# Altium schematic symbol library Cypress USB Controllers.SchLib: 169 symbols (part 1 of 15)
Pins are listed as number, name and electrical type; pins without a type are passive.

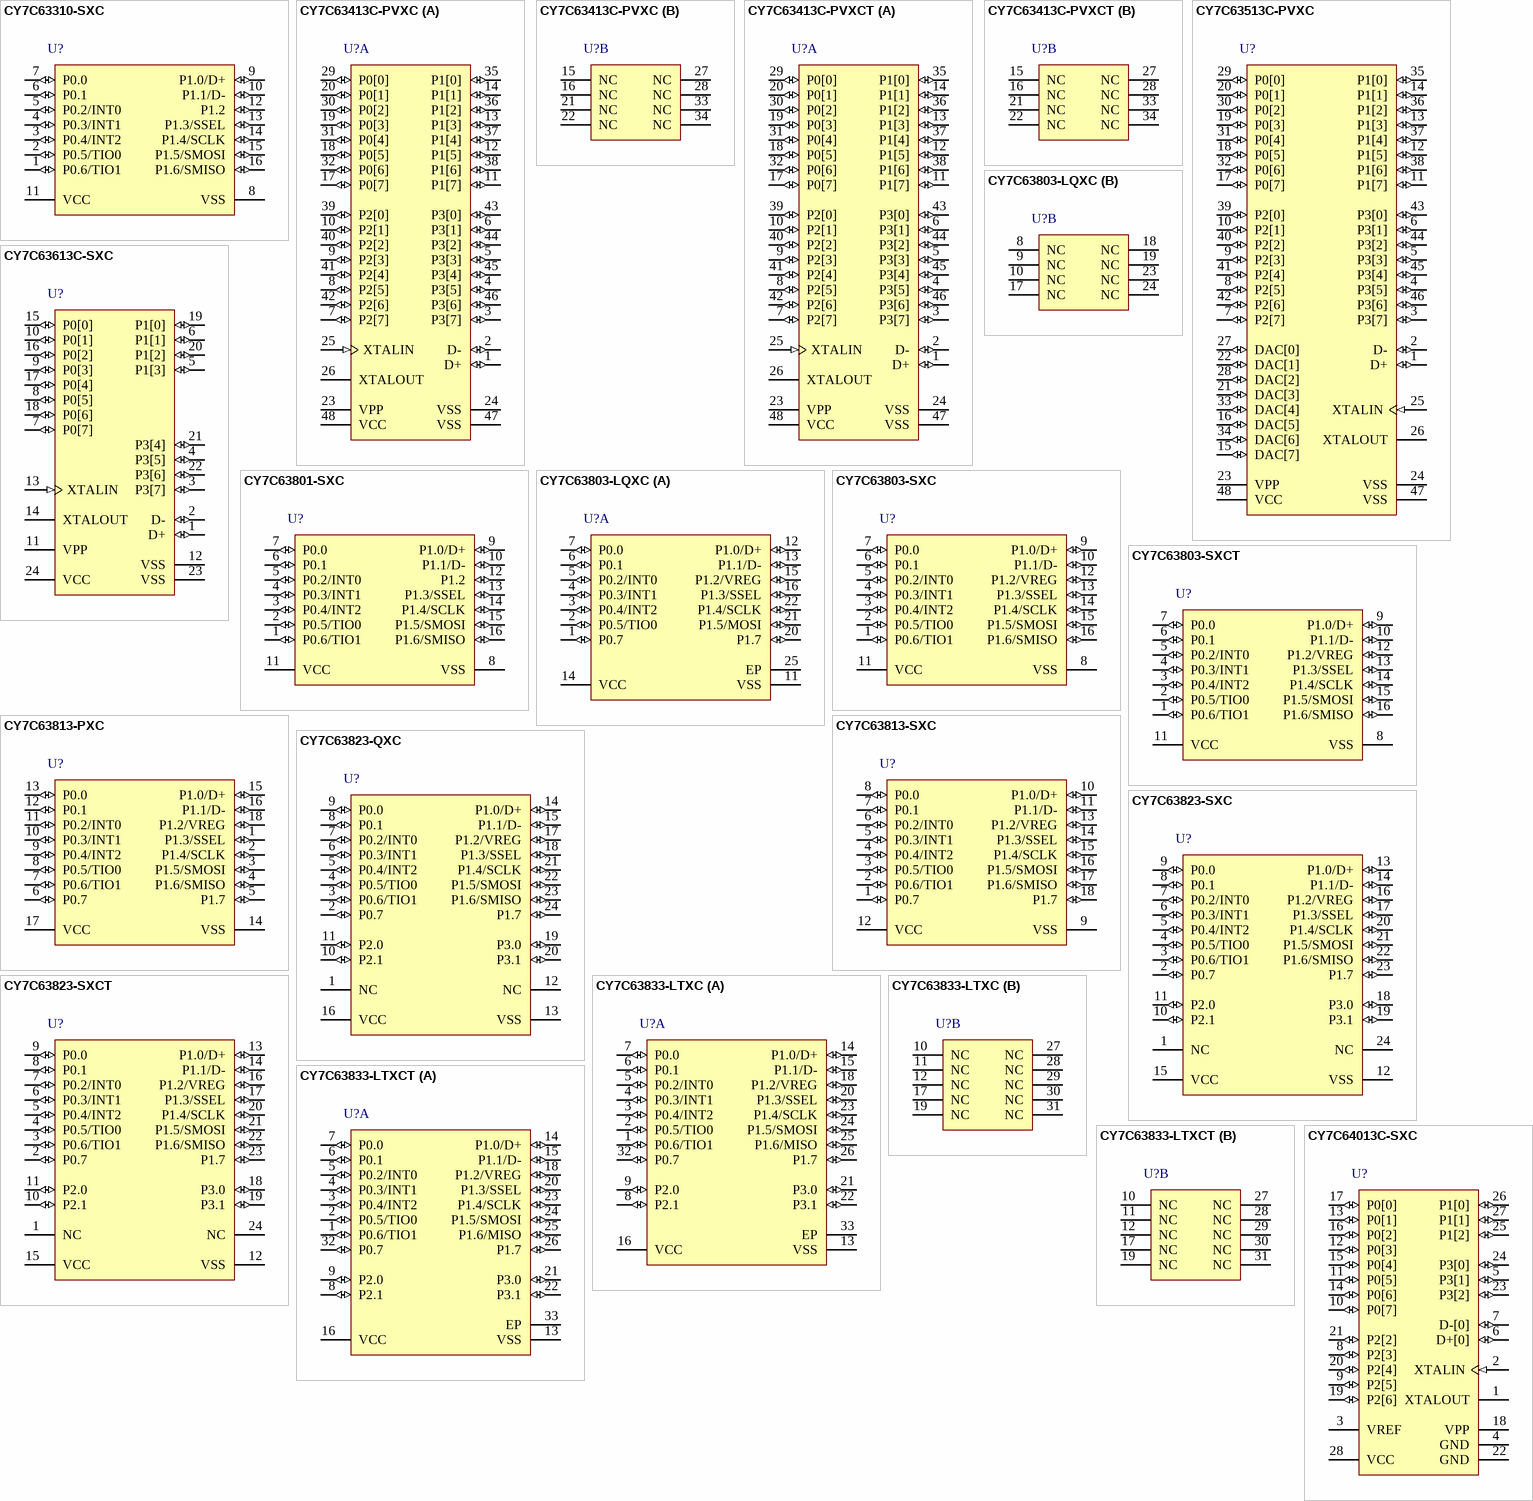
[diagram p0: symbols CY7C63310-SXC to CY7C64013C-SXC]

## CY7C63310-SXC
designator U?
enCoRe(TM) II Low Speed USB Peripheral Controller, 3 KB, 14 I/Os, 4 to 5.5 V, 0 to 70 degC, 16-Pin SOIC (SX16), Tube; Manufacturer: Cypress; PartNumber: CY7C63310-SXC; CPU Core: M8C; Max. Operating Voltage (V): 5.5; Memory Architecture: Flash; Memory Size (KB): 3; Min. Operating Voltage (V): 4; No. of I/Os: 14; Populated: Yes; DatasheetVersion: Rev. *Q; PackageVersion: Rev. *E, 09/2012; PackageReference: SX16; PackageDescription: 16-Pin SOIC (150 MIL), Body 9.89 x 3.90 mm, Pitch 1.27 mm; Supplier 1: Digi-Key; Supplier Part Number 1: 428-2913-5-ND; Max. Operating Temp. (degreesC): 70; Min. Operating Temp. (degreesC): 0; Packing: Tube; RoHS: Pb-Free; Mounting Technology: Surface Mount; Code_JEDEC: MS-012; ComponentLink1Description: Manufacturer URL; ComponentLink1URL: http://www.cypress.com/; ComponentLink2Description: Datasheet; ComponentLink2URL: http://www.cypress.com/?docID=41007; ComponentLink3Description: Package Specification; ComponentLink3URL: http://www.cypress.com/?docID=39437
footprint CYP-SX16_N (SOIC, 16-Leads, Body 9.9x3.9mm, Pitch 1.27mm, IPC Medium Density)
footprint CYP-SX16_L (SOIC, 16-Leads, Body 9.9x3.9mm, Pitch 1.27mm, IPC High Density)
footprint CYP-SX16_M (SOIC, 16-Leads, Body 9.9x3.9mm, Pitch 1.27mm, IPC Low Density)
pins: 1 P0.6/TIO1 (io), 2 P0.5/TIO0 (io), 3 P0.4/INT2 (io), 4 P0.3/INT1 (io), 5 P0.2/INT0 (io), 6 P0.1 (io) "GPIO Port 0 bit 1. Configured individually. Clock output when configured as Clock Out.", 7 P0.0 (io) "GPIO Port 0 bit 0. Configured individually. External clock input when configured as Clock In.", 8 VSS (power) "Ground", 9 P1.0/D+ (io), 10 P1.1/D- (io), 11 VCC (power) "Supply", 12 P1.2 (io) "GPIO Port 1 bit 2. Configured individually", 13 P1.3/SSEL (io), 14 P1.4/SCLK (io), 15 P1.5/SMOSI (io), 16 P1.6/SMISO (io)

## CY7C63413C-PVXC
designator U?
Low-Speed High Input / Output 1.5-Mbps USB Controller, 8 KB, 32 I/Os, 4 to 5.5 V, 0 to 70 degC, 48-Pin SSOP (PVX48), Tube; Manufacturer: Cypress; PartNumber: CY7C63413C-PVXC; CPU Core: M8B; Max. Operating Voltage (V): 5.5; Memory Architecture: EPROM; Memory Size (KB): 8; Min. Operating Voltage (V): 4; No. of I/Os: 32; Populated: Yes; DatasheetVersion: Rev. *G; PackageVersion: Rev. *D, 01/2010; PackageReference: PVX48; PackageDescription: 48-Pin Shrunk Small Outline Package, Body 15.88 x 7.51 mm, Pitch 0.64 mm; Supplier 1: Digi-Key; Supplier Part Number 1: 428-1852-ND; Max. Operating Temp. (degreesC): 70; Min. Operating Temp. (degreesC): 0; Packing: Tube; RoHS: Pb-Free; Mounting Technology: Surface Mount; ComponentLink1Description: Manufacturer URL; ComponentLink1URL: http://www.cypress.com/; ComponentLink2Description: Datasheet; ComponentLink2URL: http://www.cypress.com/?docID=48498; ComponentLink3Description: Package Specification; ComponentLink3URL: http://www.cypress.com/?docID=39235
footprint CYP-PVX48_N (SOP, 48-Leads, Body 15.88x7.51mm, Pitch 0.635mm, IPC Medium Density)
footprint CYP-PVX48_L (SOP, 48-Leads, Body 15.88x7.51mm, Pitch 0.635mm, IPC High Density)
footprint CYP-PVX48_M (SOP, 48-Leads, Body 15.88x7.51mm, Pitch 0.635mm, IPC Low Density)
part A pins: 1 D+ (io) "USB differential data; PS/2 clock and  data signals", 2 D- (io) "USB differential data; PS/2 clock and  data signals", 3 P3[7] (io) "GPIO Port 3 capable of sinking 12 mA  (typical).", 4 P3[5] (io) "GPIO Port 3 capable of sinking 12 mA  (typical).", 5 P3[3] (io) "GPIO Port 3 capable of sinking 12 mA  (typical).", 6 P3[1] (io) "GPIO Port 3 capable of sinking 12 mA  (typical).", 7 P2[7] (io) "GPIO Port 2 capable of sinking 7 mA  (typical).", 8 P2[5] (io) "GPIO Port 2 capable of sinking 7 mA  (typical).", 9 P2[3] (io) "GPIO Port 2 capable of sinking 7 mA  (typical).", 10 P2[1] (io) "GPIO Port 2 capable of sinking 7 mA  (typical).", 11 P1[7] (io) "GPIO Port 1 capable of sinking 7 mA  (typical).", 12 P1[5] (io) "GPIO Port 1 capable of sinking 7 mA  (typical).", 13 P1[3] (io) "GPIO Port 1 capable of sinking 7 mA  (typical).", 14 P1[1] (io) "GPIO Port 1 capable of sinking 7 mA  (typical).", 17 P0[7] (io) "GPIO port 0 capable of sinking 7 mA  (typical)", 18 P0[5] (io) "GPIO port 0 capable of sinking 7 mA  (typical)", 19 P0[3] (io) "GPIO port 0 capable of sinking 7 mA  (typical)", 20 P0[1] (io) "GPIO port 0 capable of sinking 7 mA  (typical)", 23 VPP (power) "Programming voltage supply, ground  during operation", 24 VSS (power) "Ground", 25 XTALIN (in) "6-MHz ceramic resonator or external  clock input", 26 XTALOUT "6-MHz ceramic resonator", 29 P0[0] (io) "GPIO port 0 capable of sinking 7 mA  (typical)", 30 P0[2] (io) "GPIO port 0 capable of sinking 7 mA  (typical)", 31 P0[4] (io) "GPIO port 0 capable of sinking 7 mA  (typical)", 32 P0[6] (io) "GPIO port 0 capable of sinking 7 mA  (typical)", 35 P1[0] (io) "GPIO Port 1 capable of sinking 7 mA  (typical).", 36 P1[2] (io) "GPIO Port 1 capable of sinking 7 mA  (typical).", 37 P1[4] (io) "GPIO Port 1 capable of sinking 7 mA  (typical).", 38 P1[6] (io) "GPIO Port 1 capable of sinking 7 mA  (typical).", 39 P2[0] (io) "GPIO Port 2 capable of sinking 7 mA  (typical).", 40 P2[2] (io) "GPIO Port 2 capable of sinking 7 mA  (typical).", 41 P2[4] (io) "GPIO Port 2 capable of sinking 7 mA  (typical).", 42 P2[6] (io) "GPIO Port 2 capable of sinking 7 mA  (typical).", 43 P3[0] (io) "GPIO Port 3 capable of sinking 12 mA  (typical).", 44 P3[2] (io) "GPIO Port 3 capable of sinking 12 mA  (typical).", 45 P3[4] (io) "GPIO Port 3 capable of sinking 12 mA  (typical).", 46 P3[6] (io) "GPIO Port 3 capable of sinking 12 mA  (typical).", 47 VSS (power) "Ground", 48 VCC (power) "Voltage supply"
part B pins: 15 NC, 16 NC, 21 NC, 22 NC, 27 NC, 28 NC, 33 NC, 34 NC

## CY7C63413C-PVXCT
designator U?
Low-Speed High Input / Output 1.5-Mbps USB Controller, 8 KB, 32 I/Os, 4 to 5.5 V, 0 to 70 degC, 48-Pin SSOP (PVX48), Tape and Reel; Manufacturer: Cypress; PartNumber: CY7C63413C-PVXCT; CPU Core: M8B; Max. Operating Voltage (V): 5.5; Memory Architecture: EPROM; Memory Size (KB): 8; Min. Operating Voltage (V): 4; No. of I/Os: 32; Populated: Yes; DatasheetVersion: Rev. *G; PackageVersion: Rev. *D, 01/2010; PackageReference: PVX48; PackageDescription: 48-Pin Shrunk Small Outline Package, Body 15.88 x 7.51 mm, Pitch 0.64 mm; Supplier 1: Digi-Key; Supplier Part Number 1: CY7C63413C-PVXCT-ND; Max. Operating Temp. (degreesC): 70; Min. Operating Temp. (degreesC): 0; Packing: Tape and Reel; RoHS: Pb-Free; Mounting Technology: Surface Mount; ComponentLink1Description: Manufacturer URL; ComponentLink1URL: http://www.cypress.com/; ComponentLink2Description: Datasheet; ComponentLink2URL: http://www.cypress.com/?docID=48498; ComponentLink3Description: Package Specification; ComponentLink3URL: http://www.cypress.com/?docID=39235
footprint CYP-PVX48_N (SOP, 48-Leads, Body 15.88x7.51mm, Pitch 0.635mm, IPC Medium Density)
footprint CYP-PVX48_L (SOP, 48-Leads, Body 15.88x7.51mm, Pitch 0.635mm, IPC High Density)
footprint CYP-PVX48_M (SOP, 48-Leads, Body 15.88x7.51mm, Pitch 0.635mm, IPC Low Density)
part A pins: 1 D+ (io) "USB differential data; PS/2 clock and  data signals", 2 D- (io) "USB differential data; PS/2 clock and  data signals", 3 P3[7] (io) "GPIO Port 3 capable of sinking 12 mA  (typical).", 4 P3[5] (io) "GPIO Port 3 capable of sinking 12 mA  (typical).", 5 P3[3] (io) "GPIO Port 3 capable of sinking 12 mA  (typical).", 6 P3[1] (io) "GPIO Port 3 capable of sinking 12 mA  (typical).", 7 P2[7] (io) "GPIO Port 2 capable of sinking 7 mA  (typical).", 8 P2[5] (io) "GPIO Port 2 capable of sinking 7 mA  (typical).", 9 P2[3] (io) "GPIO Port 2 capable of sinking 7 mA  (typical).", 10 P2[1] (io) "GPIO Port 2 capable of sinking 7 mA  (typical).", 11 P1[7] (io) "GPIO Port 1 capable of sinking 7 mA  (typical).", 12 P1[5] (io) "GPIO Port 1 capable of sinking 7 mA  (typical).", 13 P1[3] (io) "GPIO Port 1 capable of sinking 7 mA  (typical).", 14 P1[1] (io) "GPIO Port 1 capable of sinking 7 mA  (typical).", 17 P0[7] (io) "GPIO port 0 capable of sinking 7 mA  (typical)", 18 P0[5] (io) "GPIO port 0 capable of sinking 7 mA  (typical)", 19 P0[3] (io) "GPIO port 0 capable of sinking 7 mA  (typical)", 20 P0[1] (io) "GPIO port 0 capable of sinking 7 mA  (typical)", 23 VPP (power) "Programming voltage supply, ground  during operation", 24 VSS (power) "Ground", 25 XTALIN (in) "6-MHz ceramic resonator or external  clock input", 26 XTALOUT "6-MHz ceramic resonator", 29 P0[0] (io) "GPIO port 0 capable of sinking 7 mA  (typical)", 30 P0[2] (io) "GPIO port 0 capable of sinking 7 mA  (typical)", 31 P0[4] (io) "GPIO port 0 capable of sinking 7 mA  (typical)", 32 P0[6] (io) "GPIO port 0 capable of sinking 7 mA  (typical)", 35 P1[0] (io) "GPIO Port 1 capable of sinking 7 mA  (typical).", 36 P1[2] (io) "GPIO Port 1 capable of sinking 7 mA  (typical).", 37 P1[4] (io) "GPIO Port 1 capable of sinking 7 mA  (typical).", 38 P1[6] (io) "GPIO Port 1 capable of sinking 7 mA  (typical).", 39 P2[0] (io) "GPIO Port 2 capable of sinking 7 mA  (typical).", 40 P2[2] (io) "GPIO Port 2 capable of sinking 7 mA  (typical).", 41 P2[4] (io) "GPIO Port 2 capable of sinking 7 mA  (typical).", 42 P2[6] (io) "GPIO Port 2 capable of sinking 7 mA  (typical).", 43 P3[0] (io) "GPIO Port 3 capable of sinking 12 mA  (typical).", 44 P3[2] (io) "GPIO Port 3 capable of sinking 12 mA  (typical).", 45 P3[4] (io) "GPIO Port 3 capable of sinking 12 mA  (typical).", 46 P3[6] (io) "GPIO Port 3 capable of sinking 12 mA  (typical).", 47 VSS (power) "Ground", 48 VCC (power) "Voltage supply"
part B pins: 15 NC, 16 NC, 21 NC, 22 NC, 27 NC, 28 NC, 33 NC, 34 NC

## CY7C63513C-PVXC
designator U?
Low-Speed High Input / Output 1.5-Mbps USB Controller, 8 KB, 40 I/Os, 4 to 5.5 V, 0 to 70 degC, 48-Pin SSOP (PVX48), Tube; Manufacturer: Cypress; PartNumber: CY7C63513C-PVXC; CPU Core: M8B; Max. Operating Voltage (V): 5.5; Memory Architecture: EPROM; Memory Size (KB): 8; Min. Operating Voltage (V): 4; No. of I/Os: 40; Populated: Yes; DatasheetVersion: Rev. *G; PackageVersion: Rev. *D, 01/2010; PackageReference: PVX48; PackageDescription: 48-Pin Shrunk Small Outline Package, Body 15.88 x 7.51 mm, Pitch 0.64 mm; Supplier 1: Digi-Key; Supplier Part Number 1: 428-2253-5-ND; Max. Operating Temp. (degreesC): 70; Min. Operating Temp. (degreesC): 0; Packing: Tube; RoHS: Pb-Free; Mounting Technology: Surface Mount; ComponentLink1Description: Manufacturer URL; ComponentLink1URL: http://www.cypress.com/; ComponentLink2Description: Datasheet; ComponentLink2URL: http://www.cypress.com/?docID=48498; ComponentLink3Description: Package Specification; ComponentLink3URL: http://www.cypress.com/?docID=39235
footprint CYP-PVX48_N (SOP, 48-Leads, Body 15.88x7.51mm, Pitch 0.635mm, IPC Medium Density)
footprint CYP-PVX48_L (SOP, 48-Leads, Body 15.88x7.51mm, Pitch 0.635mm, IPC High Density)
footprint CYP-PVX48_M (SOP, 48-Leads, Body 15.88x7.51mm, Pitch 0.635mm, IPC Low Density)
pins: 1 D+ (io) "USB differential data; PS/2 clock and  data signals", 2 D- (io) "USB differential data; PS/2 clock and  data signals", 3 P3[7] (io) "GPIO Port 3 capable of sinking 12 mA  (typical).", 4 P3[5] (io) "GPIO Port 3 capable of sinking 12 mA  (typical).", 5 P3[3] (io) "GPIO Port 3 capable of sinking 12 mA  (typical).", 6 P3[1] (io) "GPIO Port 3 capable of sinking 12 mA  (typical).", 7 P2[7] (io) "GPIO Port 2 capable of sinking 7 mA  (typical).", 8 P2[5] (io) "GPIO Port 2 capable of sinking 7 mA  (typical).", 9 P2[3] (io) "GPIO Port 2 capable of sinking 7 mA  (typical).", 10 P2[1] (io) "GPIO Port 2 capable of sinking 7 mA  (typical).", 11 P1[7] (io) "GPIO Port 1 capable of sinking 7 mA  (typical).", 12 P1[5] (io) "GPIO Port 1 capable of sinking 7 mA  (typical).", 13 P1[3] (io) "GPIO Port 1 capable of sinking 7 mA  (typical).", 14 P1[1] (io) "GPIO Port 1 capable of sinking 7 mA  (typical).", 15 DAC[7] (io) "DAC I/O Port with programable current sink outputs. DAC[1:0] offer a programable range of 3.2 to 16 mA typical. DAC[7:2] have a programable sink current range of 0.2 to 1.0 mA typical. DAC I/O Port not bonded out on (See Datasheet)", 16 DAC[5] (io) "DAC I/O Port with programable current sink outputs. DAC[1:0] offer a programable range of 3.2 to 16 mA typical. DAC[7:2] have a programable sink current range of 0.2 to 1.0 mA typical. DAC I/O Port not bonded out on (See Datasheet)", 17 P0[7] (io) "GPIO port 0 capable of sinking 7 mA  (typical)", 18 P0[5] (io) "GPIO port 0 capable of sinking 7 mA  (typical)", 19 P0[3] (io) "GPIO port 0 capable of sinking 7 mA  (typical)", 20 P0[1] (io) "GPIO port 0 capable of sinking 7 mA  (typical)", 21 DAC[3] (io) "DAC I/O Port with programable current sink outputs. DAC[1:0] offer a programable range of 3.2 to 16 mA typical. DAC[7:2] have a programable sink current range of 0.2 to 1.0 mA typical. DAC I/O Port not bonded out on (See Datasheet)", 22 DAC[1] (io) "DAC I/O Port with programable current sink outputs. DAC[1:0] offer a programable range of 3.2 to 16 mA typical. DAC[7:2] have a programable sink current range of 0.2 to 1.0 mA typical. DAC I/O Port not bonded out on (See Datasheet)", 23 VPP (power) "Programming voltage supply, ground  during operation", 24 VSS (power) "Ground", 25 XTALIN (in) "6-MHz ceramic resonator or external  clock input", 26 XTALOUT "6-MHz ceramic resonator", 27 DAC[0] (io) "DAC I/O Port with programable current sink outputs. DAC[1:0] offer a programable range of 3.2 to 16 mA typical. DAC[7:2] have a programable sink current range of 0.2 to 1.0 mA typical. DAC I/O Port not bonded out on (See Datasheet)", 28 DAC[2] (io) "DAC I/O Port with programable current sink outputs. DAC[1:0] offer a programable range of 3.2 to 16 mA typical. DAC[7:2] have a programable sink current range of 0.2 to 1.0 mA typical. DAC I/O Port not bonded out on (See Datasheet)", 29 P0[0] (io) "GPIO port 0 capable of sinking 7 mA  (typical)", 30 P0[2] (io) "GPIO port 0 capable of sinking 7 mA  (typical)", 31 P0[4] (io) "GPIO port 0 capable of sinking 7 mA  (typical)", 32 P0[6] (io) "GPIO port 0 capable of sinking 7 mA  (typical)", 33 DAC[4] (io) "DAC I/O Port with programable current sink outputs. DAC[1:0] offer a programable range of 3.2 to 16 mA typical. DAC[7:2] have a programable sink current range of 0.2 to 1.0 mA typical. DAC I/O Port not bonded out on (See Datasheet)", 34 DAC[6] (io) "DAC I/O Port with programable current sink outputs. DAC[1:0] offer a programable range of 3.2 to 16 mA typical. DAC[7:2] have a programable sink current range of 0.2 to 1.0 mA typical. DAC I/O Port not bonded out on (See Datasheet)", 35 P1[0] (io) "GPIO Port 1 capable of sinking 7 mA  (typical).", 36 P1[2] (io) "GPIO Port 1 capable of sinking 7 mA  (typical).", 37 P1[4] (io) "GPIO Port 1 capable of sinking 7 mA  (typical).", 38 P1[6] (io) "GPIO Port 1 capable of sinking 7 mA  (typical).", 39 P2[0] (io) "GPIO Port 2 capable of sinking 7 mA  (typical).", 40 P2[2] (io) "GPIO Port 2 capable of sinking 7 mA  (typical).", 41 P2[4] (io) "GPIO Port 2 capable of sinking 7 mA  (typical).", 42 P2[6] (io) "GPIO Port 2 capable of sinking 7 mA  (typical).", 43 P3[0] (io) "GPIO Port 3 capable of sinking 12 mA  (typical).", 44 P3[2] (io) "GPIO Port 3 capable of sinking 12 mA  (typical).", 45 P3[4] (io) "GPIO Port 3 capable of sinking 12 mA  (typical).", 46 P3[6] (io) "GPIO Port 3 capable of sinking 12 mA  (typical).", 47 VSS (power) "Ground", 48 VCC (power) "Voltage supply"

## CY7C63613C-SXC
designator U?
Low-Speed High Input / Output 1.5-Mbps USB Controller, 8 KB, 16 I/Os, 4 to 5.5 V, 0 to 70 degC, 24-Pin SOIC (SX24), Tube; Manufacturer: Cypress; PartNumber: CY7C63613C-SXC; CPU Core: M8B; Max. Operating Voltage (V): 5.5; Memory Architecture: EPROM; Memory Size (KB): 8; Min. Operating Voltage (V): 4; No. of I/Os: 16; Populated: Yes; DatasheetVersion: Rev. *G; PackageVersion: Rev. *E; PackageReference: SX24; PackageDescription: 24-Pin Small Outline Integrated Circuit Package, Body 7.506 x 15.392 mm, Pitch 1.27 mm; Supplier 1: Digi-Key; Supplier Part Number 1: 428-2254-5-ND; Max. Operating Temp. (degreesC): 70; Min. Operating Temp. (degreesC): 0; Packing: Tube; RoHS: Pb-Free; Mounting Technology: Surface Mount; Code_JEDEC: MO-119; ComponentLink1Description: Manufacturer URL; ComponentLink1URL: http://www.cypress.com/; ComponentLink2Description: Datasheet; ComponentLink2URL: http://www.cypress.com/?docID=48498; ComponentLink3Description: Package Specification; ComponentLink3URL: http://www.cypress.com/?docID=41007
footprint CYP-SX24_N (SOIC, 24-Leads, Body 15.6x7.6mm, Pitch 1.27mm, IPC Medium Density)
footprint CYP-SX24_L (SOIC, 24-Leads, Body 15.6x7.6mm, Pitch 1.27mm, IPC High Density)
footprint CYP-SX24_M (SOIC, 24-Leads, Body 15.6x7.6mm, Pitch 1.27mm, IPC Low Density)
pins: 1 D+ (io) "USB differential data; PS/2 clock and  data signals", 2 D- (io) "USB differential data; PS/2 clock and  data signals", 3 P3[7] (io) "GPIO Port 3 capable of sinking 12 mA  (typical).", 4 P3[5] (io) "GPIO Port 3 capable of sinking 12 mA  (typical).", 5 P1[3] (io) "GPIO port 1 capable of sinking 7 mA  (typical)", 6 P1[1] (io) "GPIO port 1 capable of sinking 7 mA  (typical)", 7 P0[7] (io) "GPIO port 0 capable of sinking 7 mA  (typical)", 8 P0[5] (io) "GPIO port 0 capable of sinking 7 mA  (typical)", 9 P0[3] (io) "GPIO port 0 capable of sinking 7 mA  (typical)", 10 P0[1] (io) "GPIO port 0 capable of sinking 7 mA  (typical)", 11 VPP (power) "Programming voltage supply, ground  during operation", 12 VSS (power) "Ground", 13 XTALIN (in) "6-MHz ceramic resonator or external  clock input", 14 XTALOUT "6-MHz ceramic resonator", 15 P0[0] (io) "GPIO port 0 capable of sinking 7 mA  (typical)", 16 P0[2] (io) "GPIO port 0 capable of sinking 7 mA  (typical)", 17 P0[4] (io) "GPIO port 0 capable of sinking 7 mA  (typical)", 18 P0[6] (io) "GPIO port 0 capable of sinking 7 mA  (typical)", 19 P1[0] (io) "GPIO port 1 capable of sinking 7 mA  (typical)", 20 P1[2] (io) "GPIO port 1 capable of sinking 7 mA  (typical)", 21 P3[4] (io) "GPIO Port 3 capable of sinking 12 mA  (typical).", 22 P3[6] (io) "GPIO Port 3 capable of sinking 12 mA  (typical).", 23 VSS (power) "Ground", 24 VCC (power) "Voltage supply"

## CY7C63801-SXC
designator U?
enCoRe(TM) II Low Speed USB Peripheral Controller, 4 KB, 14 I/Os, 4 to 5.5 V, 0 to 70 degC, 16-Pin SOIC (SX16), Tube; Manufacturer: Cypress; PartNumber: CY7C63801-SXC; CPU Core: M8C; Max. Operating Voltage (V): 5.5; Memory Architecture: Flash; Memory Size (KB): 4; No. of I/Os: 14; Populated: Yes; DatasheetVersion: Rev. *Q; PackageVersion: Rev. *E, 09/2012; PackageReference: SX16; PackageDescription: 16-Pin SOIC (150 MIL), Body 9.89 x 3.90 mm, Pitch 1.27 mm; Supplier 1: Digi-Key; Supplier Part Number 1: 428-2256-5-ND; Max. Operating Temp. (degreesC): 70; Min. Operating Temp. (degreesC): 0; Min. Operating Voltage (V): 4; Packing: Tube; RoHS: Pb-Free; Mounting Technology: Surface Mount; Code_JEDEC: MS-012; ComponentLink1Description: Manufacturer URL; ComponentLink1URL: http://www.cypress.com/; ComponentLink2Description: Datasheet; ComponentLink2URL: http://www.cypress.com/?docID=41007; ComponentLink3Description: Package Specification; ComponentLink3URL: http://www.cypress.com/?docID=39437
footprint CYP-SX16_N (SOIC, 16-Leads, Body 9.9x3.9mm, Pitch 1.27mm, IPC Medium Density)
footprint CYP-SX16_L (SOIC, 16-Leads, Body 9.9x3.9mm, Pitch 1.27mm, IPC High Density)
footprint CYP-SX16_M (SOIC, 16-Leads, Body 9.9x3.9mm, Pitch 1.27mm, IPC Low Density)
pins: 1 P0.6/TIO1 (io), 2 P0.5/TIO0 (io), 3 P0.4/INT2 (io), 4 P0.3/INT1 (io), 5 P0.2/INT0 (io), 6 P0.1 (io) "GPIO Port 0 bit 1. Configured individually. Clock output when configured as Clock Out.", 7 P0.0 (io) "GPIO Port 0 bit 0. Configured individually. External clock input when configured as Clock In.", 8 VSS (power) "Ground", 9 P1.0/D+ (io), 10 P1.1/D- (io), 11 VCC (power) "Supply", 12 P1.2 (io) "GPIO Port 1 bit 2. Configured individually", 13 P1.3/SSEL (io), 14 P1.4/SCLK (io), 15 P1.5/SMOSI (io), 16 P1.6/SMISO (io)

## CY7C63803-LQXC
designator U?
enCoRe(TM) II Low Speed USB Peripheral Controller, 8 KB, 14 I/Os, 4 to 5.5 V, 0 to 70 degC, 24-Pin QFN (LQX24), Tray; Manufacturer: Cypress; PartNumber: CY7C63803-LQXC; CPU Core: M8C; Max. Operating Voltage (V): 5.5; Memory Architecture: Flash; Memory Size (KB): 8; Min. Operating Voltage (V): 4; No. of I/Os: 14; Populated: Yes; DatasheetVersion: Rev. *Q; PackageVersion: Rev. *E; PackageReference: LQX24; PackageDescription: 24-Pin QFN (4 x 4 x 0.55 mm) LQ24A 2.65 x 2.65 E-Pad (Sawn); Supplier 1: Digi-Key; Supplier Part Number 1: CY7C63803-LQXC-ND; Max. Operating Temp. (degreesC): 70; Min. Operating Temp. (degreesC): 0; Packing: Tray; RoHS: Pb-Free; Mounting Technology: Surface Mount; Code_JEDEC: MO-248; ComponentLink1Description: Manufacturer URL; ComponentLink1URL: http://www.cypress.com/; ComponentLink2Description: Datasheet; ComponentLink2URL: http://www.cypress.com/?docID=41007; ComponentLink3Description: Package Specification; ComponentLink3URL: http://www.cypress.com/?docID=40402
footprint CYP-LQX24_N (QFN, 24-Leads, Body 4x4mm, Pitch 0.5mm, Thermal Pad 2.65x2.65mm, IPC Medium Density)
footprint CYP-LQX24_L (QFN, 24-Leads, Body 4x4mm, Pitch 0.5mm, Thermal Pad 2.65x2.65mm, IPC High Density)
footprint CYP-LQX24_M (QFN, 24-Leads, Body 4x4mm, Pitch 0.5mm, Thermal Pad 2.65x2.65mm, IPC Low Density)
part A pins: 1 P0.7 (io) "GPIO Port 0 bit 7. Configured individually", 2 P0.5/TIO0 (io), 3 P0.4/INT2 (io), 4 P0.3/INT1 (io), 5 P0.2/INT0 (io), 6 P0.1 (io) "GPIO Port 0 bit 1. Configured individually. Clock output when configured as Clock Out.", 7 P0.0 (io) "GPIO Port 0 bit 0. Configured individually. External clock input when configured as Clock In.", 11 VSS (power) "Ground", 12 P1.0/D+ (io), 13 P1.1/D- (io), 14 VCC (power) "Supply", 15 P1.2/VREG (io), 16 P1.3/SSEL (io), 20 P1.7 (io) "GPIO Port 1 bit 7. Configured individually. TTL voltage threshold.", 21 P1.5/MOSI (io), 22 P1.4/SCLK (io), 25 EP
part B pins: 8 NC "No connect", 9 NC "No connect", 10 NC "No connect", 17 NC "No connect", 18 NC "No connect", 19 NC "No connect", 23 NC "No connect", 24 NC "No connect"

## CY7C63803-SXC
designator U?
enCoRe(TM) II Low Speed USB Peripheral Controller, 8 KB, 14 I/Os, 4 to 5.5 V, 0 to 70 degC, 16-Pin SOIC (SX16), Tube; Manufacturer: Cypress; PartNumber: CY7C63803-SXC; CPU Core: M8C; Max. Operating Voltage (V): 5.5; Memory Architecture: Flash; Memory Size (KB): 8; Min. Operating Voltage (V): 4; No. of I/Os: 14; Populated: Yes; DatasheetVersion: Rev. *Q; PackageVersion: Rev. *E, 09/2012; PackageReference: SX16; PackageDescription: 16-Pin SOIC (150 MIL), Body 9.89 x 3.90 mm, Pitch 1.27 mm; Supplier 1: Digi-Key; Supplier Part Number 1: 428-2914-5-ND; Max. Operating Temp. (degreesC): 70; Min. Operating Temp. (degreesC): 0; Packing: Tube; RoHS: Pb-Free; Mounting Technology: Surface Mount; Code_JEDEC: MS-012; ComponentLink1Description: Manufacturer URL; ComponentLink1URL: http://www.cypress.com/; ComponentLink2Description: Datasheet; ComponentLink2URL: http://www.cypress.com/?docID=41007; ComponentLink3Description: Package Specification; ComponentLink3URL: http://www.cypress.com/?docID=39437
footprint CYP-SX16_N (SOIC, 16-Leads, Body 9.9x3.9mm, Pitch 1.27mm, IPC Medium Density)
footprint CYP-SX16_L (SOIC, 16-Leads, Body 9.9x3.9mm, Pitch 1.27mm, IPC High Density)
footprint CYP-SX16_M (SOIC, 16-Leads, Body 9.9x3.9mm, Pitch 1.27mm, IPC Low Density)
pins: 1 P0.6/TIO1 (io) "GPIO Port 0 bit 6. Configured individually Alternate function Timer capture inputs or Timer output TIO1", 2 P0.5/TIO0 (io) "?GPIO Port 0 bit 5. Configured individually Alternate function Timer capture inputs or Timer output TIO0", 3 P0.4/INT2 (io) "GPIO Port 0 bit 4. Configured individually. Optional rising edge interrupt INT2.", 4 P0.3/INT1 (io) "GPIO Port 0 bit 3. Configured individually. Optional rising edge interrupt INT1.", 5 P0.2/INT0 (io) "GPIO Port 0 bit 2. Configured individually. Optional rising edge interrupt INT0.", 6 P0.1 (io) "GPIO Port 0 bit 1. Configured individually. Clock output when configured as Clock Out.", 7 P0.0 (io) "GPIO Port 0 bit 0. Configured individually. External clock input when configured as Clock In.", 8 VSS (power) "Ground", 9 P1.0/D+ (io) "?GPIO Port 1 bit 0/USB D+ [1]/ISSP-SCLK If this pin is used as a General Purpose output, it draws current. This pin must be configured as an input to reduce current draw.", 10 P1.1/D- (io) "GPIO Port 1 bit 1/USB D- [1]/ISSP-SDATA If this pin is used as a General Purpose output, it draws current. This pin must be configured as an input to reduce current draw.", 11 VCC (power) "Supply", 12 P1.2/VREG (io) "GPIO Port 1 bit 2. Configured individually. 3.3V if regulator is enabled. (The 3.3 V regulator is not available in the CY7C63310 and CY7C63801.) A 1-uF min, 2-uF max capacitor is required on Vreg output.", 13 P1.3/SSEL (io) "GPIO Port 1 bit 3. Configured individually. Alternate function is SSEL signal of the SPI bus TTL voltage thresholds. Although Vreg is not available with the CY7C63310, 3.3 V I/O is still available.", 14 P1.4/SCLK (io) "GPIO Port 1 bit 4. Configured individually. Alternate function is SCLK signal of the SPI bus TTL voltage thresholds. Although Vreg is not available with the CY7C63310, 3.3 V I/O is still available.", 15 P1.5/SMOSI (io) "GPIO Port 1 bit 5. Configured individually. Alternate function is SMOSI signal of the SPI bus TTL voltage thresholds. Although Vreg is not available with the CY7C63310, 3.3 V I/O is still available.", 16 P1.6/SMISO (io) "GPIO Port 1 bit 6. Configured individually. Alternate function is SMISO signal of the SPI bus TTL voltage thresholds. Although Vreg is not available with the CY7C63310, 3.3 V I/O is still available."

## CY7C63803-SXCT
designator U?
enCoRe(TM) II Low Speed USB Peripheral Controller, 8 KB, 14 I/Os, 4 to 5.5 V, 0 to 70 degC, 16-Pin SOIC (SX16), Tape and Reel; Manufacturer: Cypress; PartNumber: CY7C63803-SXCT; CPU Core: M8C; Max. Operating Voltage (V): 5.5; Memory Architecture: Flash; Memory Size (KB): 8; Min. Operating Voltage (V): 4; No. of I/Os: 14; Populated: Yes; DatasheetVersion: Rev. *Q; PackageVersion: Rev. *E, 09/2012; PackageReference: SX16; PackageDescription: 16-Pin SOIC (150 MIL), Body 9.89 x 3.90 mm, Pitch 1.27 mm; Supplier 1: Digi-Key; Supplier Part Number 1: CY7C63803-SXCT-ND; Max. Operating Temp. (degreesC): 70; Min. Operating Temp. (degreesC): 0; Packing: Tape and Reel; RoHS: Pb-Free; Mounting Technology: Surface Mount; Code_JEDEC: MS-012; ComponentLink1Description: Manufacturer URL; ComponentLink1URL: http://www.cypress.com/; ComponentLink2Description: Datasheet; ComponentLink2URL: http://www.cypress.com/?docID=41007; ComponentLink3Description: Package Specification; ComponentLink3URL: http://www.cypress.com/?docID=39437
footprint CYP-SX16_N (SOIC, 16-Leads, Body 9.9x3.9mm, Pitch 1.27mm, IPC Medium Density)
footprint CYP-SX16_L (SOIC, 16-Leads, Body 9.9x3.9mm, Pitch 1.27mm, IPC High Density)
footprint CYP-SX16_M (SOIC, 16-Leads, Body 9.9x3.9mm, Pitch 1.27mm, IPC Low Density)
pins: 1 P0.6/TIO1 (io) "GPIO Port 0 bit 6. Configured individually Alternate function Timer capture inputs or Timer output TIO1", 2 P0.5/TIO0 (io) "?GPIO Port 0 bit 5. Configured individually Alternate function Timer capture inputs or Timer output TIO0", 3 P0.4/INT2 (io) "GPIO Port 0 bit 4. Configured individually. Optional rising edge interrupt INT2.", 4 P0.3/INT1 (io) "GPIO Port 0 bit 3. Configured individually. Optional rising edge interrupt INT1.", 5 P0.2/INT0 (io) "GPIO Port 0 bit 2. Configured individually. Optional rising edge interrupt INT0.", 6 P0.1 (io) "GPIO Port 0 bit 1. Configured individually. Clock output when configured as Clock Out.", 7 P0.0 (io) "GPIO Port 0 bit 0. Configured individually. External clock input when configured as Clock In.", 8 VSS (power) "Ground", 9 P1.0/D+ (io) "?GPIO Port 1 bit 0/USB D+ [1]/ISSP-SCLK If this pin is used as a General Purpose output, it draws current. This pin must be configured as an input to reduce current draw.", 10 P1.1/D- (io) "GPIO Port 1 bit 1/USB D- [1]/ISSP-SDATA If this pin is used as a General Purpose output, it draws current. This pin must be configured as an input to reduce current draw.", 11 VCC (power) "Supply", 12 P1.2/VREG (io) "GPIO Port 1 bit 2. Configured individually. 3.3V if regulator is enabled. (The 3.3 V regulator is not available in the CY7C63310 and CY7C63801.) A 1-uF min, 2-uF max capacitor is required on Vreg output.", 13 P1.3/SSEL (io) "GPIO Port 1 bit 3. Configured individually. Alternate function is SSEL signal of the SPI bus TTL voltage thresholds. Although Vreg is not available with the CY7C63310, 3.3 V I/O is still available.", 14 P1.4/SCLK (io) "GPIO Port 1 bit 4. Configured individually. Alternate function is SCLK signal of the SPI bus TTL voltage thresholds. Although Vreg is not available with the CY7C63310, 3.3 V I/O is still available.", 15 P1.5/SMOSI (io) "GPIO Port 1 bit 5. Configured individually. Alternate function is SMOSI signal of the SPI bus TTL voltage thresholds. Although Vreg is not available with the CY7C63310, 3.3 V I/O is still available.", 16 P1.6/SMISO (io) "GPIO Port 1 bit 6. Configured individually. Alternate function is SMISO signal of the SPI bus TTL voltage thresholds. Although Vreg is not available with the CY7C63310, 3.3 V I/O is still available."

## CY7C63813-PXC
designator U?
enCoRe(TM) II Low Speed USB Peripheral Controller, 8 KB, 16 I/Os, 4 to 5.5 V, 0 to 70 degC, 18-Pin PDIP (PX18), Tube; Manufacturer: Cypress; PartNumber: CY7C63813-PXC; CPU Core: M8C; Max. Operating Voltage (V): 5.5; Memory Architecture: Flash; Memory Size (KB): 8; Min. Operating Voltage (V): 4; No. of I/Os: 16; Populated: Yes; DatasheetVersion: Rev. *Q; PackageVersion: Rev. *E, 07/2012; PackageReference: PX18; PackageDescription: 18-Pin PDIP, Body 6.477 x 22.733 mm, Pitch 2.54 mm, Row Spacing 7.62 mm; Supplier 1: Digi-Key; Supplier Part Number 1: CY7C63813-PXC-ND; Max. Operating Temp. (degreesC): 70; Min. Operating Temp. (degreesC): 0; Packing: Tube; RoHS: Pb-Free; Mounting Technology: Through Hole; ComponentLink1Description: Manufacturer URL; ComponentLink1URL: http://www.cypress.com/; ComponentLink2Description: Datasheet; ComponentLink2URL: http://www.cypress.com/?docID=41007; ComponentLink3Description: Package Specification; ComponentLink3URL: http://www.cypress.com/?docID=39136
footprint CYP-PX18_V (DIP, 18-Leads, Body 23.35x6.85mm, Pitch 2.54mm)
pins: 1 P1.3/SSEL (io), 2 P1.4/SCLK (io), 3 P1.5/SMOSI (io), 4 P1.6/SMISO (io), 5 P1.7 (io) "GPIO Port 1 bit 7. Configured individually. TTL voltage threshold.", 6 P0.7 (io) "GPIO Port 0 bit 7. Configured individually Not present in the 16 pin SOIC package", 7 P0.6/TIO1 (io), 8 P0.5/TIO0 (io), 9 P0.4/INT2 (io), 10 P0.3/INT1 (io), 11 P0.2/INT0 (io), 12 P0.1 (io) "GPIO Port 0 bit 1. Configured individually. Clock output when configured as Clock Out.", 13 P0.0 (io) "GPIO Port 0 bit 0. Configured individually. External clock input when configured as Clock In.", 14 VSS (power) "Ground", 15 P1.0/D+ (io), 16 P1.1/D- (io), 17 VCC (power) "Supply", 18 P1.2/VREG (io)

## CY7C63813-SXC
designator U?
enCoRe(TM) II Low Speed USB Peripheral Controller, 8 KB, 16 I/Os, 4 to 5.5 V, 0 to 70 degC, 18-Pin SOIC (SX18), Tube; Manufacturer: Cypress; PartNumber: CY7C63813-SXC; CPU Core: M8C; Max. Operating Voltage (V): 5.5; Memory Architecture: Flash; Memory Size (KB): 8; Min. Operating Voltage (V): 4; No. of I/Os: 16; Populated: Yes; DatasheetVersion: Rev. *Q; PackageVersion: Rev. *D, 06/2011; PackageReference: SX18; PackageDescription: 18-Pin Small Outline Integrated Circuit Package, Body 7.506 x 11.557 mm, Pitch 1.27 mm; Supplier 1: Digi-Key; Supplier Part Number 1: 428-2915-5-ND; Max. Operating Temp. (degreesC): 70; Min. Operating Temp. (degreesC): 0; Packing: Tube; RoHS: Pb-Free; Mounting Technology: Surface Mount; Code_JEDEC: MO-119; ComponentLink1Description: Manufacturer URL; ComponentLink1URL: http://www.cypress.com/; ComponentLink2Description: Datasheet; ComponentLink2URL: http://www.cypress.com/?docID=41007; ComponentLink3Description: Package Specification; ComponentLink3URL: http://www.cypress.com/?docID=39171
footprint CYP-SX18_N (SOIC, 18-Leads, Body 11.8x7.6mm, Pitch 1.27mm, IPC Medium Density)
footprint CYP-SX18_L (SOIC, 18-Leads, Body 11.8x7.6mm, Pitch 1.27mm, IPC High Density)
footprint CYP-SX18_M (SOIC, 18-Leads, Body 11.8x7.6mm, Pitch 1.27mm, IPC Low Density)
pins: 1 P0.7 (io) "GPIO Port 0 bit 7. Configured individually Not present in the 16 pin SOIC package", 2 P0.6/TIO1 (io), 3 P0.5/TIO0 (io), 4 P0.4/INT2 (io), 5 P0.3/INT1 (io), 6 P0.2/INT0 (io), 7 P0.1 (io) "GPIO Port 0 bit 1. Configured individually. Clock output when configured as Clock Out.", 8 P0.0 (io) "GPIO Port 0 bit 0. Configured individually. External clock input when configured as Clock In.", 9 VSS (power) "Ground", 10 P1.0/D+ (io), 11 P1.1/D- (io), 12 VCC (power) "Supply", 13 P1.2/VREG (io), 14 P1.3/SSEL (io), 15 P1.4/SCLK (io), 16 P1.5/SMOSI (io), 17 P1.6/SMISO (io), 18 P1.7 (io) "GPIO Port 1 bit 7. Configured individually. TTL voltage threshold."

## CY7C63823-QXC
designator U?
enCoRe(TM) II Low Speed USB Peripheral Controller, 8 KB, 20 I/Os, 4 to 5.5 V, 0 to 70 degC, 24-Pin QSOP (QX24), Tube; Manufacturer: Cypress; PartNumber: CY7C63823-QXC; CPU Core: M8C; Max. Operating Voltage (V): 5.5; Memory Architecture: Flash; Memory Size (KB): 8; Min. Operating Voltage (V): 4; No. of I/Os: 20; Populated: Yes; DatasheetVersion: Rev. *Q; PackageVersion: Rev. *D, 07/2011; PackageReference: QX24; PackageDescription: 24-Pin QSOP, Body 8.65 x 3.9 mm, Pitch 0.635 mm; Supplier 1: Digi-Key; Supplier Part Number 1: 428-2257-5-ND; Max. Operating Temp. (degreesC): 70; Min. Operating Temp. (degreesC): 0; Packing: Tube; RoHS: Pb-Free; Mounting Technology: Surface Mount; ComponentLink1Description: Manufacturer URL; ComponentLink1URL: http://www.cypress.com/; ComponentLink2Description: Datasheet; ComponentLink2URL: http://www.cypress.com/?docID=41007; ComponentLink3Description: Package Specification; ComponentLink3URL: http://www.cypress.com/?docID=39161
footprint CYP-QX24_N (SOP, 24-Leads, Body 8.7x4mm, Pitch 0.64mm, IPC Medium Density)
footprint CYP-QX24_L (SOP, 24-Leads, Body 8.7x4mm, Pitch 0.64mm, IPC High Density)
footprint CYP-QX24_M (SOP, 24-Leads, Body 8.7x4mm, Pitch 0.64mm, IPC Low Density)
pins: 1 NC "No connect", 2 P0.7 (io) "GPIO Port 0 bit 7. Configured individually", 3 P0.6/TIO1 (io), 4 P0.5/TIO0 (io), 5 P0.4/INT2 (io), 6 P0.3/INT1 (io), 7 P0.2/INT0 (io), 8 P0.1 (io) "GPIO Port 0 bit 1. Configured individually. Clock output when configured as Clock Out.", 9 P0.0 (io) "GPIO Port 0 bit 0. Configured individually. External clock input when configured as Clock In.", 10 P2.1 (io) "GPIO Port 2. Configured as a group (byte).", 11 P2.0 (io) "GPIO Port 2. Configured as a group (byte).", 12 NC "No connect", 13 VSS (power) "Ground", 14 P1.0/D+ (io), 15 P1.1/D- (io), 16 VCC (power) "Supply", 17 P1.2/VREG (io), 18 P1.3/SSEL (io), 19 P3.0 (io) "GPIO Port 3. Configured as a group (byte).", 20 P3.1 (io) "GPIO Port 3. Configured as a group (byte).", 21 P1.4/SCLK (io), 22 P1.5/SMOSI (io), 23 P1.6/SMISO (io), 24 P1.7 (io) "GPIO Port 1 bit 7. Configured individually. TTL voltage threshold."

## CY7C63823-SXC
designator U?
enCoRe(TM) II Low Speed USB Peripheral Controller, 8 KB, 20 I/Os, 4 to 5.5 V, 0 to 70 degC, 24-Pin SOIC (SX24), Tube; Manufacturer: Cypress; PartNumber: CY7C63823-SXC; CPU Core: M8C; Max. Operating Voltage (V): 5.5; Memory Architecture: Flash; Memory Size (KB): 8; Min. Operating Voltage (V): 4; No. of I/Os: 20; Populated: Yes; DatasheetVersion: Rev. *Q; PackageVersion: Rev. *E; PackageReference: SX24; PackageDescription: 24-Pin Small Outline Integrated Circuit Package, Body 7.506 x 15.392 mm, Pitch 1.27 mm; Supplier 1: Digi-Key; Supplier Part Number 1: CY7C63823-SXC-ND; Max. Operating Temp. (degreesC): 70; Min. Operating Temp. (degreesC): 0; Packing: Tube; RoHS: Pb-Free; Mounting Technology: Surface Mount; Code_JEDEC: MO-119; ComponentLink1Description: Manufacturer URL; ComponentLink1URL: http://www.cypress.com/; ComponentLink2Description: Datasheet; ComponentLink2URL: http://www.cypress.com/?docID=41007; ComponentLink3Description: Package Specification; ComponentLink3URL: http://www.cypress.com/?docID=41007
footprint CYP-SX24_N (SOIC, 24-Leads, Body 15.6x7.6mm, Pitch 1.27mm, IPC Medium Density)
footprint CYP-SX24_L (SOIC, 24-Leads, Body 15.6x7.6mm, Pitch 1.27mm, IPC High Density)
footprint CYP-SX24_M (SOIC, 24-Leads, Body 15.6x7.6mm, Pitch 1.27mm, IPC Low Density)
pins: 1 NC "No connect", 2 P0.7 (io) "GPIO Port 0 bit 7. Configured individually", 3 P0.6/TIO1 (io), 4 P0.5/TIO0 (io), 5 P0.4/INT2 (io), 6 P0.3/INT1 (io), 7 P0.2/INT0 (io), 8 P0.1 (io) "GPIO Port 0 bit 1. Configured individually. Clock output when configured as Clock Out.", 9 P0.0 (io) "GPIO Port 0 bit 0. Configured individually. External clock input when configured as Clock In.", 10 P2.1 (io) "GPIO Port 2. Configured as a group (byte).", 11 P2.0 (io) "GPIO Port 2. Configured as a group (byte).", 12 VSS (power) "Ground", 13 P1.0/D+ (io), 14 P1.1/D- (io), 15 VCC (power) "Supply", 16 P1.2/VREG (io), 17 P1.3/SSEL (io), 18 P3.0 (io) "GPIO Port 3. Configured as a group (byte).", 19 P3.1 (io) "GPIO Port 3. Configured as a group (byte).", 20 P1.4/SCLK (io), 21 P1.5/SMOSI (io), 22 P1.6/SMISO (io), 23 P1.7 (io) "GPIO Port 1 bit 7. Configured individually. TTL voltage threshold.", 24 NC "No connect"

## CY7C63823-SXCT
designator U?
enCoRe(TM) II Low Speed USB Peripheral Controller, 8 KB, 20 I/Os, 4 to 5.5 V, 0 to 70 degC, 24-Pin SOIC (SX24), Tape and Reel; Manufacturer: Cypress; PartNumber: CY7C63823-SXCT; CPU Core: M8C; Max. Operating Voltage (V): 5.5; Memory Architecture: Flash; Memory Size (KB): 8; Min. Operating Voltage (V): 4; No. of I/Os: 20; Populated: Yes; DatasheetVersion: Rev. *Q; PackageVersion: Rev. *E; PackageReference: SX24; PackageDescription: 24-Pin Small Outline Integrated Circuit Package, Body 7.506 x 15.392 mm, Pitch 1.27 mm; Supplier 1: Digi-Key; Supplier Part Number 1: CY7C63823-SXCT-ND; Max. Operating Temp. (degreesC): 70; Min. Operating Temp. (degreesC): 0; Packing: Tape and Reel; RoHS: Pb-Free; Mounting Technology: Surface Mount; Code_JEDEC: MO-119; ComponentLink1Description: Manufacturer URL; ComponentLink1URL: http://www.cypress.com/; ComponentLink2Description: Datasheet; ComponentLink2URL: http://www.cypress.com/?docID=41007; ComponentLink3Description: Package Specification; ComponentLink3URL: http://www.cypress.com/?docID=41007
footprint CYP-SX24_N (SOIC, 24-Leads, Body 15.6x7.6mm, Pitch 1.27mm, IPC Medium Density)
footprint CYP-SX24_L (SOIC, 24-Leads, Body 15.6x7.6mm, Pitch 1.27mm, IPC High Density)
footprint CYP-SX24_M (SOIC, 24-Leads, Body 15.6x7.6mm, Pitch 1.27mm, IPC Low Density)
pins: 1 NC "No connect", 2 P0.7 (io) "GPIO Port 0 bit 7. Configured individually", 3 P0.6/TIO1 (io), 4 P0.5/TIO0 (io), 5 P0.4/INT2 (io), 6 P0.3/INT1 (io), 7 P0.2/INT0 (io), 8 P0.1 (io) "GPIO Port 0 bit 1. Configured individually. Clock output when configured as Clock Out.", 9 P0.0 (io) "GPIO Port 0 bit 0. Configured individually. External clock input when configured as Clock In.", 10 P2.1 (io) "GPIO Port 2. Configured as a group (byte).", 11 P2.0 (io) "GPIO Port 2. Configured as a group (byte).", 12 VSS (power) "Ground", 13 P1.0/D+ (io), 14 P1.1/D- (io), 15 VCC (power) "Supply", 16 P1.2/VREG (io), 17 P1.3/SSEL (io), 18 P3.0 (io) "GPIO Port 3. Configured as a group (byte).", 19 P3.1 (io) "GPIO Port 3. Configured as a group (byte).", 20 P1.4/SCLK (io), 21 P1.5/SMOSI (io), 22 P1.6/SMISO (io), 23 P1.7 (io) "GPIO Port 1 bit 7. Configured individually. TTL voltage threshold.", 24 NC "No connect"

## CY7C63833-LTXC
designator U?
enCoRe(TM) II Low Speed USB Peripheral Controller, 8 KB, 20 I/Os, 4 to 5.5 V, 0 to 70 degC, 32-Pin QFN (LTX32), Tray; Manufacturer: Cypress; PartNumber: CY7C63833-LTXC; CPU Core: M8C; Max. Operating Voltage (V): 5.5; Memory Architecture: Flash; Memory Size (KB): 8; Min. Operating Voltage (V): 4; No. of I/Os: 20; Populated: Yes; DatasheetVersion: Rev. *Q; PackageVersion: Rev. *D, 09/2012; PackageReference: LTX32; PackageDescription: 32-Pin Sawn QFN, Body 5 x 5 mm, Pitch 0.5 mm; Supplier 1: Digi-Key; Supplier Part Number 1: CY7C63833-LTXC-ND; Max. Operating Temp. (degreesC): 70; Min. Operating Temp. (degreesC): 0; Packing: Tray; RoHS: Pb-Free; Mounting Technology: Surface Mount; Code_JEDEC: MO-220; ComponentLink1Description: Manufacturer URL; ComponentLink1URL: http://www.cypress.com/; ComponentLink2Description: Datasheet; ComponentLink2URL: http://www.cypress.com/?docID=41007; ComponentLink3Description: Package Specification; ComponentLink3URL: http://www.cypress.com/?docID=39513
footprint CYP-LTX32_N (QFN, 32-Leads, Body 5.1x5.1mm, Pitch 0.5mm, Thermal Pad 3.5x3.5mm, IPC Medium Density)
footprint CYP-LTX32_L (QFN, 32-Leads, Body 5.1x5.1mm, Pitch 0.5mm, Thermal Pad 3.5x3.5mm, IPC Medium Density)
footprint CYP-LTX32_M (QFN, 32-Leads, Body 5.1x5.1mm, Pitch 0.5mm, Thermal Pad 3.5x3.5mm, IPC Low Density)
part A pins: 1 P0.6/TIO1 (io), 2 P0.5/TIO0 (io), 3 P0.4/INT2 (io), 4 P0.3/INT1 (io), 5 P0.2/INT0 (io), 6 P0.1 (io) "GPIO Port 0 bit 1. Configured individually. Clock output when configured as Clock Out.", 7 P0.0 (io) "GPIO Port 0 bit 0. Configured individually. External clock input when configured as Clock In.", 8 P2.1 (io) "GPIO Port 2. Configured as a group (byte).", 9 P2.0 (io) "GPIO Port 2. Configured as a group (byte).", 13 VSS (power) "Ground", 14 P1.0/D+ (io), 15 P1.1/D- (io), 16 VCC (power) "Supply", 18 P1.2/VREG (io), 20 P1.3/SSEL (io), 21 P3.0 (io) "GPIO Port 3. Configured as a group (byte).", 22 P3.1 (io) "GPIO Port 3. Configured as a group (byte).", 23 P1.4/SCLK (io), 24 P1.5/SMOSI (io), 25 P1.6/MISO (io), 26 P1.7 (io) "GPIO Port 1 bit 7. Configured individually. TTL voltage threshold.", 32 P0.7 (io) "GPIO Port 0 bit 7. Configured individually", 33 EP
part B pins: 10 NC "No connect", 11 NC "No connect", 12 NC "No connect", 17 NC "No connect", 19 NC "No connect", 27 NC "No connect", 28 NC "No connect", 29 NC "No connect", 30 NC "No connect", 31 NC "No connect"

## CY7C63833-LTXCT
designator U?
enCoRe(TM) II Low Speed USB Peripheral Controller, 8 KB, 20 I/Os, 4 to 5.5 V, 0 to 70 degC, 32-Pin QFN (LTX32), Tape and Reel; Manufacturer: Cypress; PartNumber: CY7C63833-LTXCT; CPU Core: M8C; Max. Operating Voltage (V): 5.5; Memory Architecture: Flash; Memory Size (KB): 8; Min. Operating Voltage (V): 4; No. of I/Os: 20; Populated: Yes; DatasheetVersion: Rev. *Q; PackageVersion: Rev. *D, 09/2012; PackageReference: LTX32; PackageDescription: 32-Pin Sawn QFN, Body 5 x 5 mm, Pitch 0.5 mm; Supplier 1: Digi-Key; Supplier Part Number 1: CY7C63833-LTXCT-ND; Max. Operating Temp. (degreesC): 70; Min. Operating Temp. (degreesC): 0; Packing: Tape and Reel; RoHS: Pb-Free; Mounting Technology: Surface Mount; Code_JEDEC: MO-220; ComponentLink1Description: Manufacturer URL; ComponentLink1URL: http://www.cypress.com/; ComponentLink2Description: Datasheet; ComponentLink2URL: http://www.cypress.com/?docID=41007; ComponentLink3Description: Package Specification; ComponentLink3URL: http://www.cypress.com/?docID=39513
footprint CYP-LTX32_N (QFN, 32-Leads, Body 5.1x5.1mm, Pitch 0.5mm, Thermal Pad 3.5x3.5mm, IPC Medium Density)
footprint CYP-LTX32_L (QFN, 32-Leads, Body 5.1x5.1mm, Pitch 0.5mm, Thermal Pad 3.5x3.5mm, IPC Medium Density)
footprint CYP-LTX32_M (QFN, 32-Leads, Body 5.1x5.1mm, Pitch 0.5mm, Thermal Pad 3.5x3.5mm, IPC Low Density)
part A pins: 1 P0.6/TIO1 (io), 2 P0.5/TIO0 (io), 3 P0.4/INT2 (io), 4 P0.3/INT1 (io), 5 P0.2/INT0 (io), 6 P0.1 (io) "GPIO Port 0 bit 1. Configured individually. Clock output when configured as Clock Out.", 7 P0.0 (io) "GPIO Port 0 bit 0. Configured individually. External clock input when configured as Clock In.", 8 P2.1 (io) "GPIO Port 2. Configured as a group (byte).", 9 P2.0 (io) "GPIO Port 2. Configured as a group (byte).", 13 VSS (power) "Ground", 14 P1.0/D+ (io), 15 P1.1/D- (io), 16 VCC (power) "Supply", 18 P1.2/VREG (io), 20 P1.3/SSEL (io), 21 P3.0 (io) "GPIO Port 3. Configured as a group (byte).", 22 P3.1 (io) "GPIO Port 3. Configured as a group (byte).", 23 P1.4/SCLK (io), 24 P1.5/SMOSI (io), 25 P1.6/MISO (io), 26 P1.7 (io) "GPIO Port 1 bit 7. Configured individually. TTL voltage threshold.", 32 P0.7 (io) "GPIO Port 0 bit 7. Configured individually", 33 EP
part B pins: 10 NC "No connect", 11 NC "No connect", 12 NC "No connect", 17 NC "No connect", 19 NC "No connect", 27 NC "No connect", 28 NC "No connect", 29 NC "No connect", 30 NC "No connect", 31 NC "No connect"

## CY7C64013C-SXC
designator U?
Full-Speed USB (12-Mbps) Function, 8 KB, 19 I/Os, 3.15 to 3.45 V, 0 to 70 degC, 28-Pin SOIC (SX28), Tube; Manufacturer: Cypress; PartNumber: CY7C64013C-SXC; CPU Core: M8; Max. Operating Voltage (V): 3.45; Memory Architecture: EPROM; Memory Size (KB): 8; Min. Operating Voltage (V): 3.15; No. of I/Os: 19; Populated: Yes; DatasheetVersion: Rev. *E; PackageVersion: Rev. *E, 01/2010; PackageReference: SX28; PackageDescription: 28-Pin SOIC, Body 17.91 x 7.51 mm, Pitch 1.27 mm; Supplier 1: Digi-Key; Supplier Part Number 1: 428-1847-ND; Max. Operating Temp. (degreesC): 70; Min. Operating Temp. (degreesC): 0; Packing: Tube; RoHS: Pb-Free; Mounting Technology: Surface Mount; Code_JEDEC: MO-119; ComponentLink1Description: Manufacturer URL; ComponentLink1URL: http://www.cypress.com/; ComponentLink2Description: Datasheet; ComponentLink2URL: http://www.cypress.com/?docID=48692; ComponentLink3Description: Package Specification; ComponentLink3URL: http://www.cypress.com/?docID=39168
footprint CYP-SX28_N (SOIC, 28-Leads, Body 17.9x7.5mm, Pitch 1.27mm, IPC Medium Density)
footprint CYP-SX28_L (SOIC, 28-Leads, Body 17.9x7.5mm, Pitch 1.27mm, IPC High Density)
footprint CYP-SX28_M (SOIC, 28-Leads, Body 17.9x7.5mm, Pitch 1.27mm, IPC Low Density)
pins: 1 XTALOUT "6-MHz crystal out.", 2 XTALIN (in) "6-MHz crystal or external clock input.", 3 VREF (power) "External 3.3 V supply voltage for the differential data output buffers and the D+ pull-up.", 4 GND (power) "Ground.", 5 P3[1] (io) "GPIO Port 3, capable of sinking 12 mA (typical).", 6 D+[0] (io) "Upstream port, USB differential data.", 7 D-[0] (io) "Upstream port, USB differential data.", 8 P2[3] (io) "GPIO Port 2 capable of sinking 7 mA (typical). HAPI is also supported through P2[6:2].", 9 P2[5] (io) "GPIO Port 2 capable of sinking 7 mA (typical). HAPI is also supported through P2[6:2].", 10 P0[7] (io) "GPIO Port 0 capable of sinking 7 mA (typical).", 11 P0[5] (io) "GPIO Port 0 capable of sinking 7 mA (typical).", 12 P0[3] (io) "GPIO Port 0 capable of sinking 7 mA (typical).", 13 P0[1] (io) "GPIO Port 0 capable of sinking 7 mA (typical).", 14 P0[6] (io) "GPIO Port 0 capable of sinking 7 mA (typical).", 15 P0[4] (io) "GPIO Port 0 capable of sinking 7 mA (typical).", 16 P0[2] (io) "GPIO Port 0 capable of sinking 7 mA (typical).", 17 P0[0] (io) "GPIO Port 0 capable of sinking 7 mA (typical).", 18 VPP (power) "Programming voltage supply, tie to ground during normal operation.", 19 P2[6] (io) "GPIO Port 2 capable of sinking 7 mA (typical). HAPI is also supported through P2[6:2].", 20 P2[4] (io) "GPIO Port 2 capable of sinking 7 mA (typical). HAPI is also supported through P2[6:2].", 21 P2[2] (io) "GPIO Port 2 capable of sinking 7 mA (typical). HAPI is also supported through P2[6:2].", 22 GND (power) "Ground.", 23 P3[2] (io) "GPIO Port 3, capable of sinking 12 mA (typical).", 24 P3[0] (io) "GPIO Port 3, capable of sinking 12 mA (typical).", 25 P1[2] (io) "GPIO Port 1 capable of sinking 7 mA (typical).", 26 P1[0] (io) "GPIO Port 1 capable of sinking 7 mA (typical).", 27 P1[1] (io) "GPIO Port 1 capable of sinking 7 mA (typical).", 28 VCC (power) "Voltage supply."

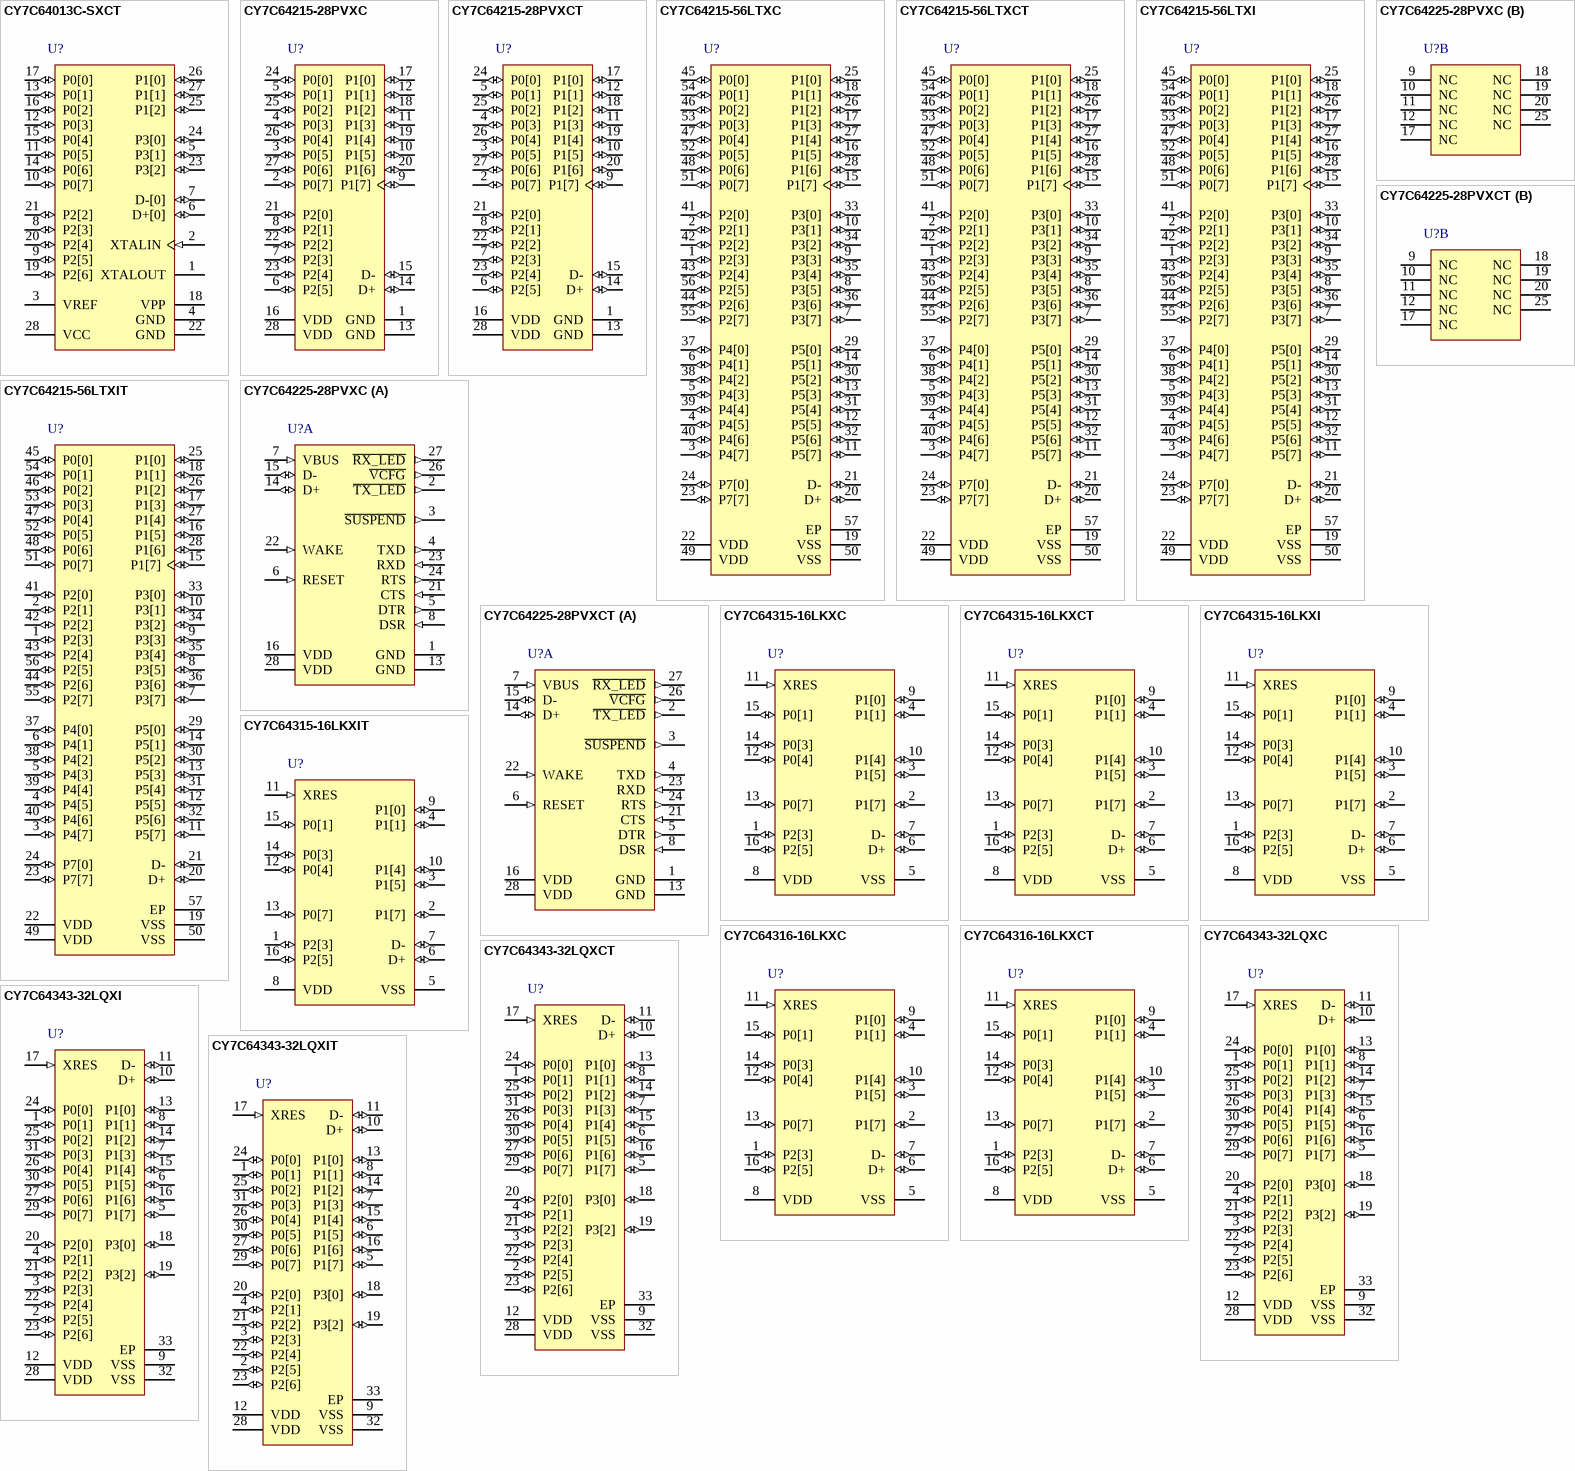
[diagram p1: symbols CY7C64013C-SXCT to CY7C64343-32LQXIT]